# EAGLE library part 73ET2- (library inductor-neosid)
FILTER triple helix bandpass with 2 tab, Type E
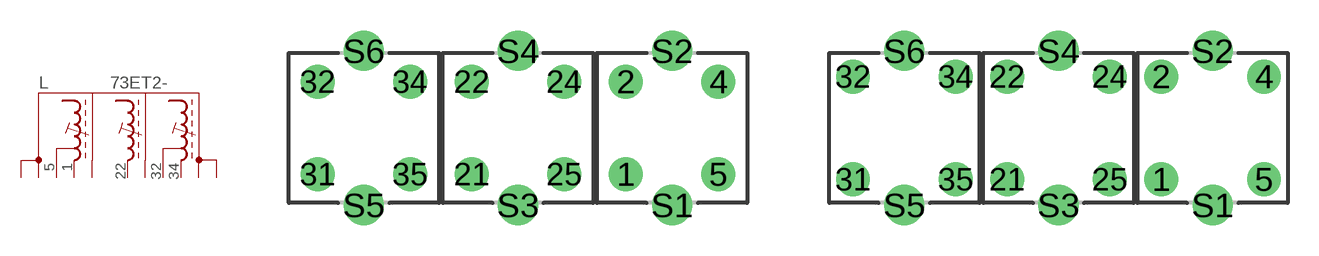
[diagram p20: symbol with the pads of 71EX3RM225; footprints 71EX3RM225, 71EX3]

Designator prefix L

## 73ET2-51223234-225 (OC_FARNELL: unknown; OC_NEWARK: unknown)  [71EX3RM225]
1  GND1  pas
5  IN  pas
22  GND2  pas
32  OUT1  pas
34  GND3  pas
S1  S1  pas
S2  S2  pas
S3  S3  pas
S4  S4  pas
S5  S5  pas
S6  S6  pas

## 73ET2-45223132 (OC_FARNELL: unknown; OC_NEWARK: unknown)  [71EX3RM225]
4  IN  pas
5  GND1  pas
22  GND2  pas
31  OUT1  pas
32  GND3  pas
S1  S1  pas
S2  S2  pas
S3  S3  pas
S4  S4  pas
S5  S5  pas
S6  S6  pas

## 73ET2-52243235 (OC_FARNELL: unknown; OC_NEWARK: unknown)  [71EX3]
2  GND1  pas
5  IN  pas
24  GND2  pas
32  OUT1  pas
34  GND3  pas
S1  S1  pas
S2  S2  pas
S3  S3  pas
S4  S4  pas
S5  S5  pas
S6  S6  pas

## 73ET2-51223234-250 (OC_FARNELL: unknown; OC_NEWARK: unknown)  [71EX3]
Pads as for 71EX3RM225

## 73ET2-54223231-250 (OC_FARNELL: unknown; OC_NEWARK: unknown)  [71EX3]
4  GND1  pas
5  IN  pas
22  GND2  pas
31  GND3  pas
32  OUT1  pas
S1  S1  pas
S2  S2  pas
S3  S3  pas
S4  S4  pas
S5  S5  pas
S6  S6  pas

## Footprint 71EX3RM225 (pad centres in mm)
TRIPLE RF COIL ASSEMBLY 1 winding, 4 pads, grid 2.25 mm
drill 1.1 round: 1 5.25,-2.25; 2 5.25,2.25; 4 9.75,2.25; 5 9.75,-2.25; 21 -2.25,-2.25; 22 -2.25,2.25; 24 2.25,2.25; 25 2.25,-2.25; 31 -9.75,-2.25; 32 -9.75,2.25; 34 -5.25,2.25; 35 -5.25,-2.25
drill 1.3 round: S1 7.5,-3.75; S2 7.5,3.75; S3 0,-3.75; S4 0,3.75; S5 -7.5,-3.75; S6 -7.5,3.75

## Footprint 71EX3 (pad centres in mm)
TRIPLE RF COIL ASSEMBLY 1 winding, 4 pads, grid 2.5 mm
drill 1.1 round: 1 5,-2.5; 2 5,2.5; 4 10,2.5; 5 10,-2.5; 21 -2.5,-2.5; 22 -2.5,2.5; 24 2.5,2.5; 25 2.5,-2.5; 31 -10,-2.5; 32 -10,2.5; 34 -5,2.5; 35 -5,-2.5
drill 1.3 round: S1 7.5,-3.75; S2 7.5,3.75; S3 0,-3.75; S4 0,3.75; S5 -7.5,-3.75; S6 -7.5,3.75